# Altium footprint library Pcb封装库.PcbLib: 36 footprints (part 3 of 3)
Each footprint in its own frame and in the unit in brackets; x right, y up, seen from the top. Pads: shape width x height; smd on the part's side, far side on the other; paste and mask are expansions set on the pad; w line width, h text height; cw(c..) or ccw(c..) is an arc to the next point about the centre after c.
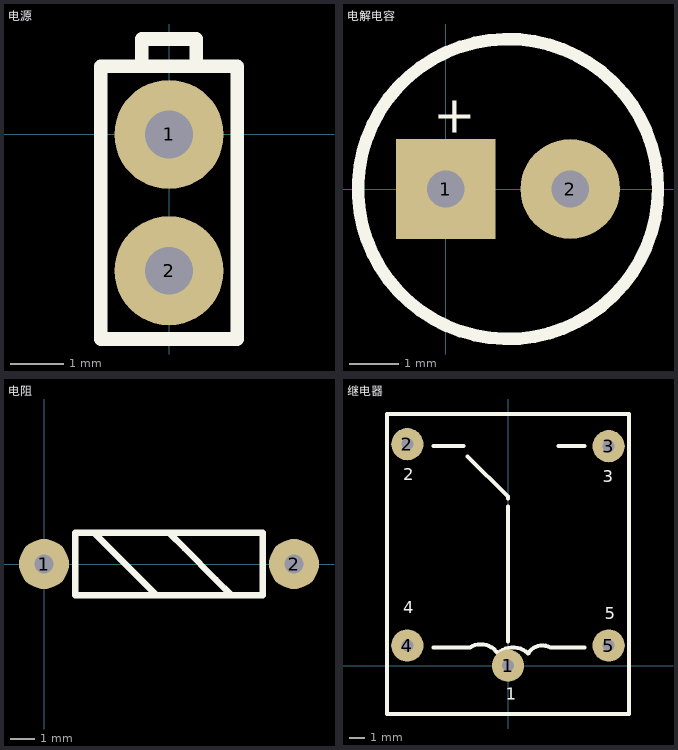
[diagram p2: the footprints below, top view; thin cyan lines are the x and y axes]

## 电源 [mil]
pads (2):
  round 80 hole 35: 1(0,0) 2(0,-100)
Top Overlay:
  lines w10: -20,50 20,50 ; -20,50 -20,70 20,70 20,50 ; -20,50 -50,50 -50,-150 50,-150 50,50 20,50

## 电解电容 [mil]
pads (2):
  rect 80x80 hole 30: 1(0,0)
  round 80 hole 30: 2(100,0)
Top Overlay:
  circle w10: c50,0 r120.42
  text "+" at -10,45 h30

## 电阻 [mil]
pads (2):
  round 80 hole 30: 1(0,0) 2(400,0)
Top Overlay:
  lines w10: 50,-50 350,-50 350,50 50,50 50,-50 ; 80,50 180,-50 300,-50 275,-25 225,25 200,50 110,50 80,50

## 继电器 [mil]
pads (5):
  round 80 hole 30: 1(0,0) 2(-250,550) 3(250,545) 4(-250,50) 5(250,50)
Top Overlay:
  lines w10: -185,45 -95,45 cw(c-67.5,2.5) -25,30 cw(c12.5,-7.5) 50,30 cw(c85,10) 105,45 190,45 ; -185,545 -110,545 ; -100,520 0,420 0,415 ; 0,60 0,395 ; 125,545 190,545 ; -300,-120 300,-120 300,625 -300,625 -300,-120
  text "1" at -5,-85 h30
  text "2" at -260,460 h30
  text "3" at 235,455 h30
  text "4" at -260,130 h30
  text "5" at 240,115 h30